# Altium schematic symbol library CYBLE-214015-01.SchLib: 1 symbol
Pins are listed as number, name and electrical type; pins without a type are passive.

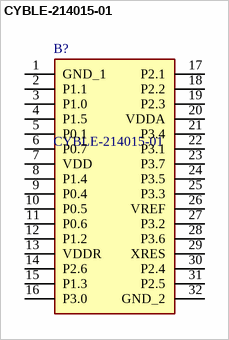
[diagram p0: symbol CYBLE-214015-01]

## CYBLE-214015-01
designator B?
PSoC Bluetooth 4.2 Module; Manufacturer_Name: Cypress Semiconductor; Geometry.Height: 1.8mm; Mouser Part Number: 727-CYBLE-214015-01; Mouser Price/Stock: https://www.mouser.co.uk/ProductDetail/Cypress-Semiconductor/CYBLE-214015-01?qs=wd5RIQLrsJhcYt83vZQWnA%3D%3D; Manufacturer_Part_Number: CYBLE-214015-01; Datasheet Link: http://www.cypress.com/file/331011/download
footprint CYBLE21401501
pins: 1 GND_1, 2 P1.1, 3 P1.0, 4 P1.5, 5 P0.1, 6 P0.7, 7 VDD, 8 P1.4, 9 P0.4, 10 P0.5, 11 P0.6, 12 P1.2, 13 VDDR, 14 P2.6, 15 P1.3, 16 P3.0, 17 P2.1, 18 P2.2, 19 P2.3, 20 VDDA, 21 P3.4, 22 P3.1, 23 P3.7, 24 P3.5, 25 P3.3, 26 VREF, 27 P3.2, 28 P3.6, 29 XRES, 30 P2.4, 31 P2.5, 32 GND_2